# EAGLE library part ST-ST25DV64K (library FaBo-Mems)
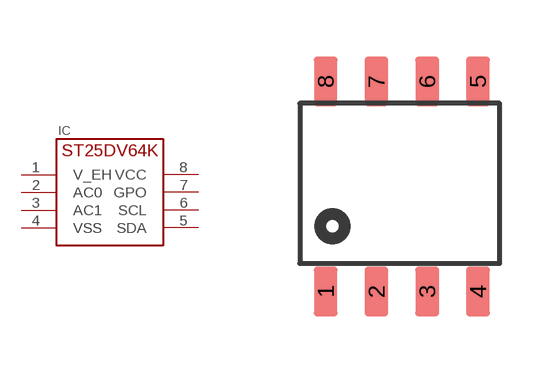
[diagram p32: symbol with the pads of SO-8; footprint SO-8]

Designator prefix IC

## ST-ST25DV64K  [SO-8]
1  V_EH
2  AC0
3  AC1
4  VSS
5  SDA
6  SCL
7  GPO
8  VCC

## Footprint SO-8 (pad centres in mm)
smd 0.6 x 1.25: 1 -1.85,-2.7; 2 -0.58,-2.7; 3 0.69,-2.7; 4 1.96,-2.7; 5 1.96,2.55; 6 0.69,2.55; 7 -0.58,2.55; 8 -1.85,2.55